# EAGLE library part XF2M-4015-1A (library SchlegelAr_Master)
Omron Electronics XF2M-4015-1A last modified: Armin Schlegel, 19.03.2014 http://de.mouser.com/ProductDetail/Molex/54132-4062/?qs=%2Fha2pyFaduiie%252bDsDPE%252bbxxE%252byCORF54wAjQh9n3aQM%3D http://www.molex.com/pdm_docs/sd/541324062_sd.pdf
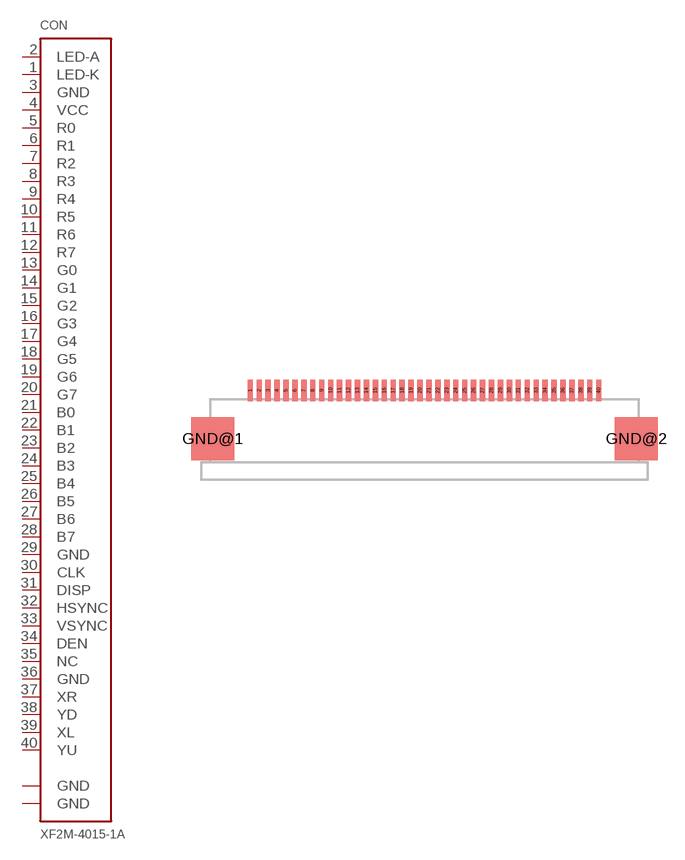
[diagram p1: symbol with the pads of XF2M-4015-1A; footprint XF2M-4015-1A]

Designator prefix CON

## XF2M-4015-1A  [XF2M-4015-1A]
1  LED-K
2  LED-A
3  GND
4  VCC
5  R0
6  R1
7  R2
8  R3
9  R4
10  R5
11  R6
12  R7
13  G0
14  G1
15  G2
16  G3
17  G4
18  G5
19  G6
20  G7
21  B0
22  B1
23  B2
24  B3
25  B4
26  B5
27  B6
28  B7
29  GND
30  CLK
31  DISP
32  HSYNC
33  VSYNC
34  DEN
35  NC
36  GND
37  XR
38  YD
39  XL
40  YU
GND@1  GND  pwr
GND@2  GND  pwr

## Footprint XF2M-4015-1A (pad centres in mm)
smd 0.3 x 1.2: 1 -9.75,2.5; 2 -9.25,2.5; 3 -8.75,2.5; 4 -8.25,2.5; 5 -7.75,2.5; 6 -7.25,2.5; 7 -6.75,2.5; 8 -6.25,2.5; 9 -5.75,2.5; 10 -5.25,2.5; 11 -4.75,2.5; 12 -4.25,2.5; 13 -3.75,2.5; 14 -3.25,2.5; 15 -2.75,2.5; 16 -2.25,2.5; 17 -1.75,2.5; 18 -1.25,2.5; 19 -0.75,2.5; 20 -0.25,2.5; 21 0.25,2.5; 22 0.75,2.5; 23 1.25,2.5; 24 1.75,2.5; 25 2.25,2.5; 26 2.75,2.5; 27 3.25,2.5; 28 3.75,2.5; 29 4.25,2.5; 30 4.75,2.5; 31 5.25,2.5; 32 5.75,2.5; 33 6.25,2.5; 34 6.75,2.5; 35 7.25,2.5; 36 7.75,2.5; 37 8.25,2.5; 38 8.75,2.5; 39 9.25,2.5; 40 9.75,2.5
smd 2.4 x 2.4: GND@1 -11.85,-0.2; GND@2 11.85,-0.2